# Altium footprint library Inductors.PcbLib: 8 footprints
Each footprint in its own frame and in the unit in brackets; x right, y up, seen from the top. Pads: shape width x height; smd on the part's side, far side on the other; paste and mask are expansions set on the pad; w line width, h text height; cw(c..) or ccw(c..) is an arc to the next point about the centre after c.
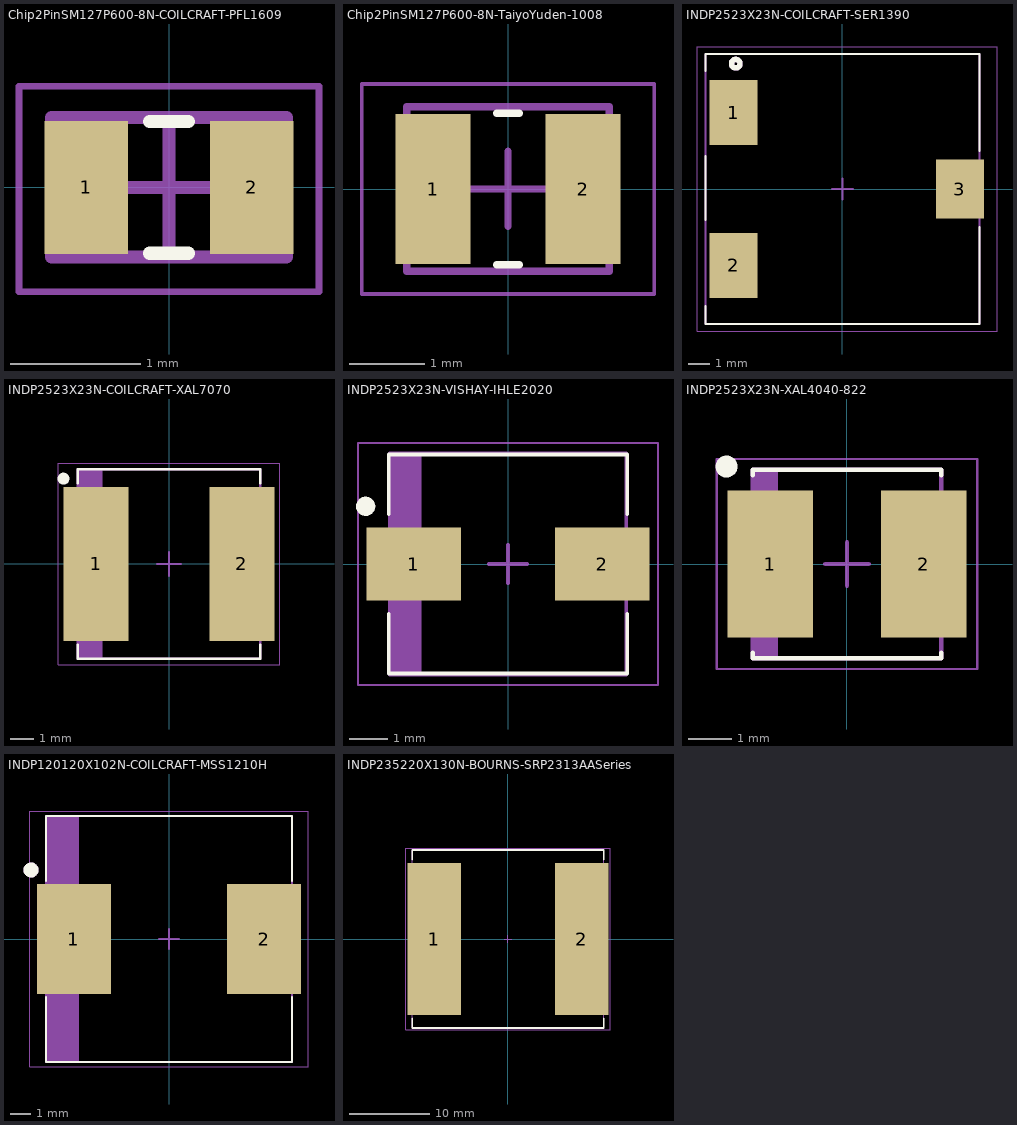
[diagram p0: the footprints below, top view; thin cyan lines are the x and y axes]

## Chip2PinSM127P600-8N-COILCRAFT-PFL1609 [mm] "PFL1609-103ME"
height 0.95
pads (2):
  rect 0.64x1.02 smd: 1(-0.635,0) 2(0.635,0)
Top Overlay:
  lines w0.1: -0.15,-0.505 0.15,-0.505 ; -0.15,0.505 0.15,0.505
Top Courtyard (Mech10):
  lines w0.05: -1.15,-0.8 1.15,-0.8 1.15,0.775 -1.15,0.775 -1.15,-0.8
  lines w0.1: -0.5,0 0.5,0 ; 0,-0.5 0,0.5
Top Assembly (Mech12):
  lines w0.1: -0.9,-0.535 0.9,-0.535 0.9,0.535 -0.9,0.535 -0.9,-0.535
3D body "Coilcraft-PFL1609.STEP": height 0.94, standoff -0.01, extent -0.9,-0.55 0.9,0.52

## Chip2PinSM127P600-8N-TaiyoYuden-1008 [mm] "MAKK2520HR22M"
height 1
pads (2):
  rect 1x2 smd: 1(-1,0) 2(1,0)
Top Overlay:
  lines w0.1: -0.15,-1.01 0.15,-1.01 ; -0.15,1.01 0.15,1.01
Top Courtyard (Mech10):
  lines w0.05: -1.95,-1.4 -1.95,1.4 1.95,1.4 1.95,-1.4 -1.95,-1.4
  lines w0.1: -0.5,0 0.5,0 ; 0,-0.5 0,0.5
Top Assembly (Mech12):
  lines w0.1: -1.35,-1.1 -1.35,1.1 1.35,1.1 1.35,-1.1 -1.35,-1.1
3D body "Chip2PinSM127P600-8N-TaiyoYuden-1008.step": height 1, standoff 0, extent -1.35,-1.1 1.35,1.1

## INDP2523X23N-COILCRAFT-SER1390 [mm]
height 9
pads (3):
  rect 2.26x3.07 smd: 1(-5.125,3.6) 2(-5.125,-3.6)
  rect 2.26x2.77 smd: 3(5.525,0)
Top Overlay:
  circle w0.254: c-5.025,5.9 r0.2
  lines w0.1: -6.45,-5.5 -6.45,-6.35 6.45,-6.35 6.45,-1.8 ; -6.45,-1.45 -6.45,1.55 ; -6.45,5.55 -6.45,6.35 6.45,6.35 6.45,1.8
Top Courtyard (Mech10):
  lines w0.05: -6.85,-6.7 -6.85,6.7 7.275,6.7 7.275,-6.7 -6.85,-6.7
  lines w0.1: -0.5,0 0.5,0 ; 0,-0.5 0,0.5
Top Assembly (Mech12):
  circle w0.254: c-5.025,5.9 r0.2
  lines w0.1: -6.45,-6.35 -6.45,6.35 6.45,6.35 6.45,-6.35 -6.45,-6.35
3D body "Coilcraft-SER1390.STEP": height 8.98, standoff -0.02, extent -6.575,-6.45 6.425,6.45

## INDP2523X23N-COILCRAFT-XAL7070 [mm]
height 7
pads (2):
  rect 2.75x6.5 smd: 1(-3.075,0) 2(3.075,0)
Top Overlay:
  circle w0.25: c-4.45,3.6 r0.125
  lines w0.1: -3.85,-3.4 -3.85,-4 3.85,-4 3.85,-3.4 ; -3.85,3.4 -3.85,4 3.85,4 3.85,3.4
Top Courtyard (Mech10):
  lines w0.05: -4.675,-4.25 4.675,-4.25 4.675,4.25 -4.675,4.25 -4.675,-4.25
  lines w0.1: -0.5,0 0.5,0 ; 0,-0.5 0,0.5
Top Assembly (Mech12):
  rectangle: -3.85,-4 -2.814,4
  lines w0.1: -3.85,-4 3.85,-4 3.85,4 -3.85,4 -3.85,-4
3D body "Coilcraft-XAL7070.STEP": height 6.6, standoff -0.4, extent -3.85,-4 3.85,4

## INDP2523X23N-VISHAY-IHLE2020 [mm] "IHLE2020CDERR22M5A"
height 3.43
pads (2):
  rect 2.45x1.9 smd: 1(-2.45,0) 2(2.45,0)
Top Overlay:
  circle w0.25: c-3.7,1.5 r0.125
  lines w0.1: -3.1,-1.3 -3.1,-2.85 3.1,-2.85 3.1,-1.3 ; -3.1,1.3 -3.1,2.85 3.1,2.85 3.1,1.3
Top Courtyard (Mech10):
  lines w0.05: -3.9,-3.15 -3.9,3.15 3.9,3.15 3.9,-3.15 -3.9,-3.15
  lines w0.1: -0.5,0 0.5,0 ; 0,-0.5 0,0.5
Top Assembly (Mech12):
  rectangle: -3.075,-2.87 -2.248,2.87
  lines w0.1: -3.075,-2.87 -3.075,2.87 3.075,2.87 3.075,-2.87 -3.075,-2.87
3D body: height 3.43, standoff 0, extent -3.075,-2.87 3.075,2.87

## INDP2523X23N-XAL4040-822 [mm] "XAL4040-822"
height 4.1
pads (2):
  rect 1.95x3.35 smd: 1(-1.75,0) 2(1.75,0)
Top Overlay:
  circle w0.25: c-2.75,2.225 r0.125
  lines w0.1: -2.15,-2.025 -2.15,-2.15 2.15,-2.15 2.15,-2.025 ; -2.15,2.025 -2.15,2.15 2.15,2.15 2.15,2.025
Top Courtyard (Mech10):
  lines w0.05: -2.975,-2.4 2.975,-2.4 2.975,2.4 -2.975,2.4 -2.975,-2.4
  lines w0.1: -0.5,0 0.5,0 ; 0,-0.5 0,0.5
Top Assembly (Mech12):
  rectangle: -2.15,-2.15 -1.572,2.15
  lines w0.1: -2.15,-2.15 2.15,-2.15 2.15,2.15 -2.15,2.15 -2.15,-2.15
3D body "Coilcraft-XAL4040.STEP": height 4.1, standoff 0, extent -2.15,-2.15 2.15,2.15

## INDP120120X102N-COILCRAFT-MSS1210H [mm] "Precision Wire Wound Inductor, 2-Leads, Body 12.00x12.00mm, IPC Medium Density"
height 10.2
pads (2):
  rect 3.7x5.5 smd: 1(-4.75,0) 2(4.75,0)
Top Overlay:
  circle w0.5: c-6.9,3.45 r0.125
  lines w0.1: -6.15,-2.9 -6.15,-6.15 6.15,-6.15 6.15,-2.9 ; -6.15,2.9 -6.15,6.15 6.15,6.15 6.15,2.9
Top Courtyard (Mech10):
  lines w0.05: -6.975,-6.4 6.975,-6.4 6.975,6.4 -6.975,6.4 -6.975,-6.4
  lines w0.1: -0.5,0 0.5,0 ; 0,-0.5 0,0.5
Top Assembly (Mech12):
  circle w0.5: c-6.9,3.45 r0.125
  rectangle: -6.15,-6.15 -4.496,6.15
  lines w0.1: -6.15,-6.15 6.15,-6.15 6.15,6.15 -6.15,6.15 -6.15,-6.15
3D body "Coilcraft-MSS1210H.STEP": height 10.16, standoff -0.04, extent -6.15,-6.1 6.15,6.2

## INDP235220X130N-BOURNS-SRP2313AASeries [mm] "Precision Wire Wound Inductor, 2-Leads, Body 23.50x22.00mm, IPC Medium Density"
height 13
pads (2):
  rect 6.7x19.1 smd: 1(-9.25,0) 2(9.25,0)
Top Overlay:
  lines w0.2: -12,-9.95 -12,-11.15 12,-11.15 12,-9.95 ; -12,9.95 -12,11.15 12,11.15 12,9.95
Top Courtyard (Mech10):
  lines w0.05: -12.825,-11.4 -12.825,11.4 12.825,11.4 12.825,-11.4 -12.825,-11.4
  lines w0.1: -0.5,0 0.5,0 ; 0,-0.5 0,0.5
Top Assembly (Mech12):
  lines w0.1: -12,-11.15 -12,11.15 12,11.15 12,-11.15 -12,-11.15
3D body: height 13, standoff 0, extent -12,-11.15 12,11.15